# Altium integrated library Atmel Microcontroller 16-Bit ARM.IntLib: 4 symbols
Pins are listed as number, name and electrical type; pins without a type are passive.

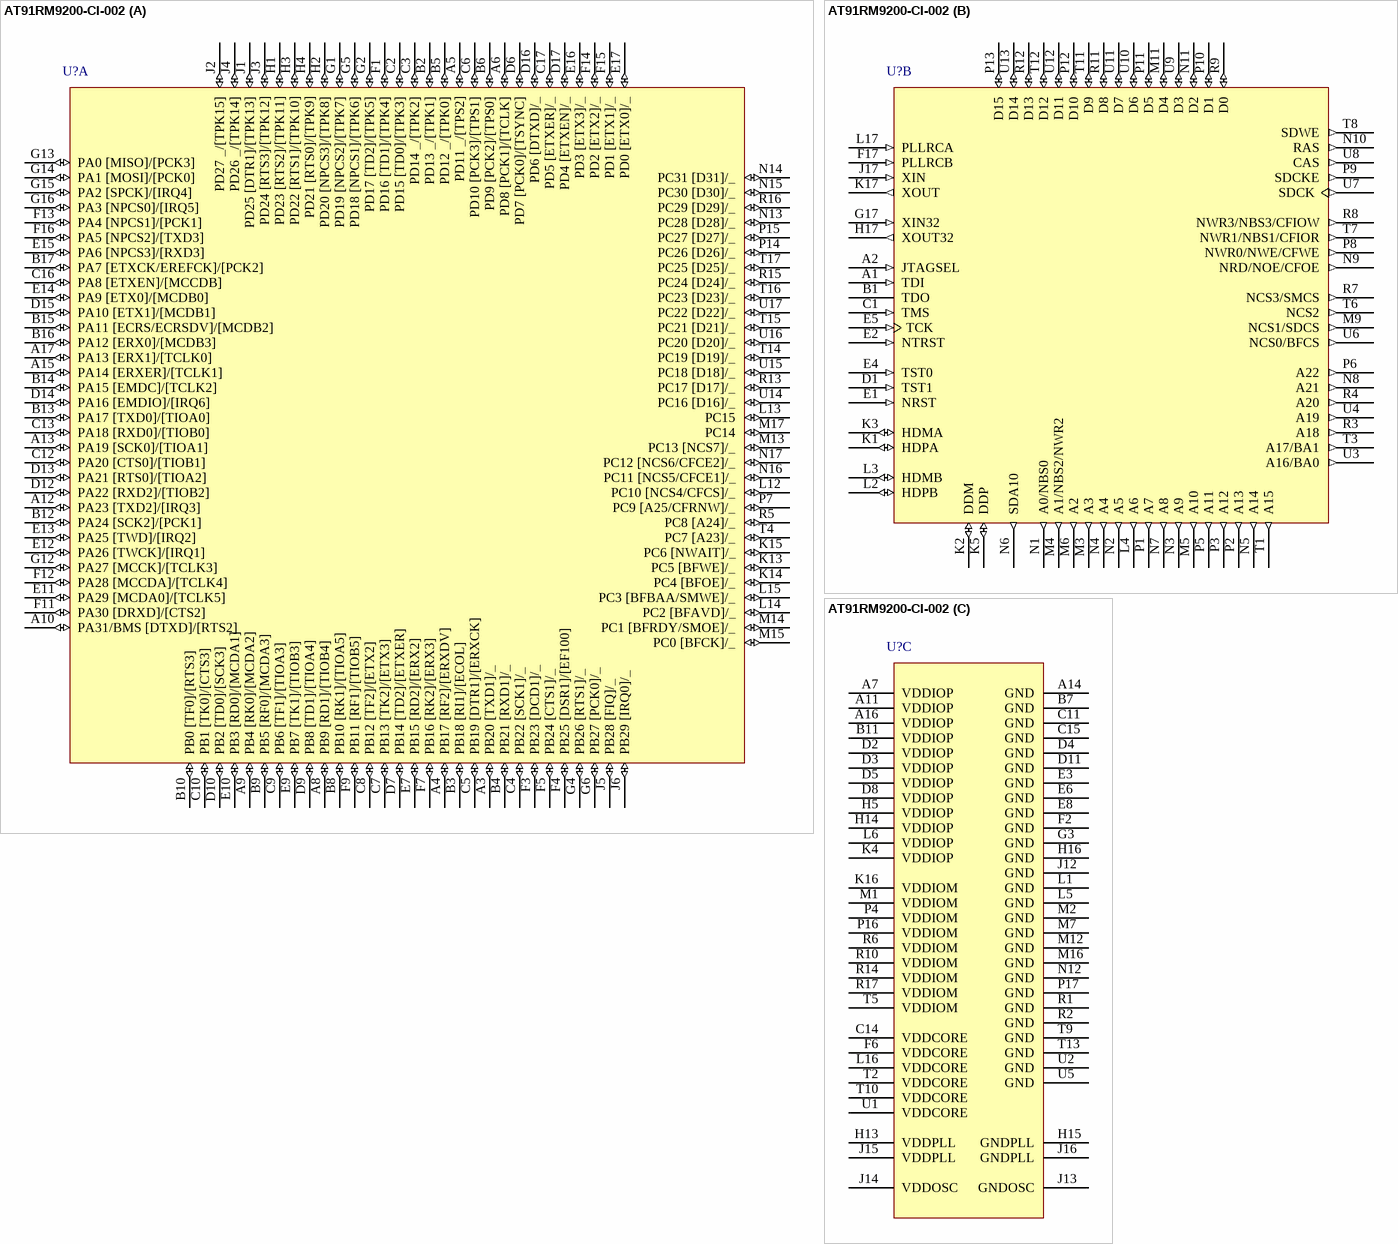
[diagram p0: symbol AT91RM9200-CI-002]

## AT91RM9200-CI-002
designator U?
16-Bit ARM Microcontroller, ARM9TDMI 32-bit RISC CPU, 16KB Instruction and 16KB Data caches, 256-Ball BGA, Industrial; Note: The Pin names in [ ] brackets indicate peripheral multiplexing function.; Published: 6-Oct-2005; LatestRevisionDate: 13-Apr-2006; LatestRevisionNote: IPC-7351 Footprint Added.; DatasheetVersion: 1768D-ATARM-11-Jul-05; PackageVersion: Jul-2005; PackageReference: BGA256; Publisher: Altium Limited; PackageDescription: 256-Ball Ball Grid Array 0.8 mm Pitch; Code_JEDEC: MO-205E (Depopulated); ComponentLink1Description: Manufacturer Link; ComponentLink1URL: http://www.atmel.com; ComponentLink2Description: Datasheet; ComponentLink2URL: http://www.atmel.com/dyn/resources/prod_documents/doc1768.pdf
footprint BGA256 (BGA, 256-Leads, Body 15x15mm, Pitch 0.8mm)
3D model AT91RM9200-BGA256 (256-Ball Ball Grid Array 0.8 mm Pitch)
part A pins: A3 PB20 [TXD1]/_ (io), A4 PB17 [RF2]/[ERXDV] (io), A5 PD11 _/[TPS2] (io), A6 PD8 [PCK1]/[TCLK] (io), A8 PB9 [RD1]/[TIOB4] (io), A9 PB4 [RK0]/[MCDA2] (io), A10 PA31/BMS [DTXD]/[RTS2] (io), A12 PA23 [TXD2]/[IRQ3] (io), A13 PA19 [SCK0]/[TIOA1] (io), A15 PA14 [ERXER]/[TCLK1] (io), A17 PA13 [ERX1]/[TCLK0] (io), B2 PD13 _/[TPK1] (io), B3 PB18 [RI1]/[ECOL] (io), B4 PB21 [RXD1]/_ (io), B5 PD12 _/[TPK0] (io), B6 PD9 [PCK2]/[TPS0] (io), B8 PB10 [RK1]/[TIOA5] (io), B9 PB5 [RF0]/[MCDA3] (io), B10 PB0 [TF0]/[RTS3] (io), B12 PA24 [SCK2]/[PCK1] (io), B13 PA17 [TXD0]/[TIOA0] (io), B14 PA15 [EMDC]/[TCLK2] (io), B15 PA11 [ECRS/ECRSDV]/[MCDB2] (io), B16 PA12 [ERX0]/[MCDB3] (io), B17 PA7 [ETXCK/EREFCK]/[PCK2] (io), C2 PD15 [TD0]/[TPK3] (io), C3 PD14 _/[TPK2] (io), C4 PB22 [SCK1]/_ (io), C5 PB19 [DTR1]/[ERXCK] (io), C6 PD10 [PCK3]/[TPS1] (io), C7 PB13 [TK2]/[ETX3] (io), C8 PB12 [TF2]/[ETX2] (io), C9 PB6 [TF1]/[TIOA3] (io), C10 PB1 [TK0]/[CTS3] (io), C12 PA20 [CTS0]/[TIOB1] (io), C13 PA18 [RXD0]/[TIOB0] (io), C16 PA8 [ETXEN]/[MCCDB] (io), C17 PD5 [ETXER]/_ (io), D6 PD7 [PCK0]/[TSYNC] (io), D7 PB14 [TD2]/[ETXER] (io), D9 PB8 [TD1]/[TIOA4] (io), D10 PB2 [TD0]/[SCK3] (io), D12 PA22 [RXD2]/[TIOB2] (io), D13 PA21 [RTS0]/[TIOA2] (io), D14 PA16 [EMDIO]/[IRQ6] (io), D15 PA10 [ETX1]/[MCDB1] (io), D16 PD6 [DTXD]/_ (io), D17 PD4 [ETXEN]/_ (io), E7 PB15 [RD2]/[ERX2] (io), E9 PB7 [TK1]/[TIOB3] (io), E10 PB3 [RD0]/[MCDA1] (io), E11 PA29 [MCDA0]/[TCLK5] (io), E12 PA26 [TWCK]/[IRQ1] (io), E13 PA25 [TWD]/[IRQ2] (io), E14 PA9 [ETX0]/[MCDB0] (io), E15 PA6 [NPCS3]/[RXD3] (io), E16 PD3 [ETX3]/_ (io), E17 PD0 [ETX0]/_ (io), F1 PD16 [TD1]/[TPK4] (io), F3 PB23 [DCD1]/_ (io), F4 PB25 [DSR1]/[EF100] (io), F5 PB24 [CTS1]/_ (io), F7 PB16 [RK2]/[ERX3] (io), F9 PB11 [RF1]/[TIOB5] (io), F11 PA30 [DRXD]/[CTS2] (io), F12 PA28 [MCCDA]/[TCLK4] (io), F13 PA4 [NPCS1]/[PCK1] (io), F14 PD2 [ETX2]/_ (io), F15 PD1 [ETX1]/_ (io), F16 PA5 [NPCS2]/[TXD3] (io), G1 PD19 [NPCS2]/[TPK7] (io), G2 PD17 [TD2]/[TPK5] (io), G4 PB26 [RTS1]/_ (io), G5 PD18 [NPCS1]/[TPK6] (io), G6 PB27 [PCK0]/_ (io), G12 PA27 [MCCK]/[TCLK3] (io), G13 PA0 [MISO]/[PCK3] (io), G14 PA1 [MOSI]/[PCK0] (io), G15 PA2 [SPCK]/[IRQ4] (io), G16 PA3 [NPCS0]/[IRQ5] (io), H1 PD23 [RTS2]/[TPK11] (io), H2 PD20 [NPCS3]/[TPK8] (io), H3 PD22 [RTS1]/[TPK10] (io), H4 PD21 [RTS0]/[TPK9] (io), J1 PD25 [DTR1]/[TPK13] (io), J2 PD27 _/[TPK15] (io), J3 PD24 [RTS3]/[TPK12] (io), J4 PD26 _/[TPK14] (io), J5 PB28 [FIQ]/_ (io), J6 PB29 [IRQ0]/_ (io), K13 PC5 [BFWE]/_ (io), K14 PC4 [BFOE]/_ (io), K15 PC6 [NWAIT]/_ (io), L12 PC10 [NCS4/CFCS]/_ (io), L13 PC15 (io), L14 PC2 [BFAVD]/_ (io), L15 PC3 [BFBAA/SMWE]/_ (io), M13 PC13 [NCS7]/_ (io), M14 PC1 [BFRDY/SMOE]/_ (io), M15 PC0 [BFCK]/_ (io), M17 PC14 (io), N13 PC28 [D28]/_ (io), N14 PC31 [D31]/_ (io), N15 PC30 [D30]/_ (io), N16 PC11 [NCS5/CFCE1]/_ (io), N17 PC12 [NCS6/CFCE2]/_ (io), P7 PC9 [A25/CFRNW]/_ (io), P14 PC26 [D26]/_ (io), P15 PC27 [D27]/_ (io), R5 PC8 [A24]/_ (io), R13 PC17 [D17]/_ (io), R15 PC24 [D24]/_ (io), R16 PC29 [D29]/_ (io), T4 PC7 [A23]/_ (io), T14 PC19 [D19]/_ (io), T15 PC21 [D21]/_ (io), T16 PC23 [D23]/_ (io), T17 PC25 [D25]/_ (io), U14 PC16 [D16]/_ (io), U15 PC18 [D18]/_ (io), U16 PC20 [D20]/_ (io), U17 PC22 [D22]/_ (io)
part B pins: A1 TDI (in), A2 JTAGSEL (in), B1 TDO (hiz), C1 TMS (in), D1 TST1 (in), E1 NRST (in), E2 NTRST (in), E4 TST0 (in), E5 TCK (in), F17 PLLRCB (in), G17 XIN32 (in), H17 XOUT32 (out), J17 XIN (in), K1 HDPA (io), K2 DDM (io), K3 HDMA (io), K5 DDP (io), K17 XOUT (out), L2 HDPB (io), L3 HDMB (io), L4 A6 (out), L17 PLLRCA (in), M3 A3 (out), M4 A1/NBS2/NWR2 (out), M5 A10 (out), M6 A2 (out), M9 NCS1/SDCS (out), M11 D4 (io), N1 A0/NBS0 (out), N2 A5 (out), N3 A9 (out), N4 A4 (out), N5 A14 (out), N6 SDA10 (out), N7 A8 (out), N8 A21 (out), N9 NRD/NOE/CFOE (out), N10 RAS (out), N11 D2 (io), P1 A7 (out), P2 A13 (out), P3 A12 (out), P5 A11 (out), P6 A22 (out), P8 NWR0/NWE/CFWE (out), P9 SDCKE (out), P10 D1 (io), P11 D5 (io), P12 D10 (io), P13 D15 (io), R3 A18 (out), R4 A20 (out), R7 NCS3/SMCS (out), R8 NWR3/NBS3/CFIOW (out), R9 D0 (io), R11 D8 (io), R12 D13 (io), T1 A15 (out), T3 A17/BA1 (out), T6 NCS2 (out), T7 NWR1/NBS1/CFIOR (out), T8 SDWE (out), T11 D9 (io), T12 D12 (io), U3 A16/BA0 (out), U4 A19 (out), U6 NCS0/BFCS (out), U7 SDCK (out), U8 CAS (out), U9 D3 (io), U10 D6 (io), U11 D7 (io), U12 D11 (io), U13 D14 (io)
part C pins: A7 VDDIOP (power), A11 VDDIOP (power), A14 GND (power), A16 VDDIOP (power), B7 GND (power), B11 VDDIOP (power), C11 GND (power), C14 VDDCORE (power), C15 GND (power), D2 VDDIOP (power), D3 VDDIOP (power), D4 GND (power), D5 VDDIOP (power), D8 VDDIOP (power), D11 GND (power), E3 GND (power), E6 GND (power), E8 GND (power), F2 GND (power), F6 VDDCORE (power), G3 GND (power), H5 VDDIOP (power), H13 VDDPLL (power), H14 VDDIOP (power), H15 GNDPLL (power), H16 GND (power), J12 GND (power), J13 GNDOSC (power), J14 VDDOSC (power), J15 VDDPLL (power), J16 GNDPLL (power), K4 VDDIOP (power), K16 VDDIOM (power), L1 GND (power), L5 GND (power), L6 VDDIOP (power), L16 VDDCORE (power), M1 VDDIOM (power), M2 GND (power), M7 GND (power), M12 GND (power), M16 GND (power), N12 GND (power), P4 VDDIOM (power), P16 VDDIOM (power), P17 GND (power), R1 GND (power), R2 GND (power), R6 VDDIOM (power), R10 VDDIOM (power), R14 VDDIOM (power), R17 VDDIOM (power), T2 VDDCORE (power), T5 VDDIOM (power), T9 GND (power), T10 VDDCORE (power), T13 GND (power), U1 VDDCORE (power), U2 GND (power), U5 GND (power)

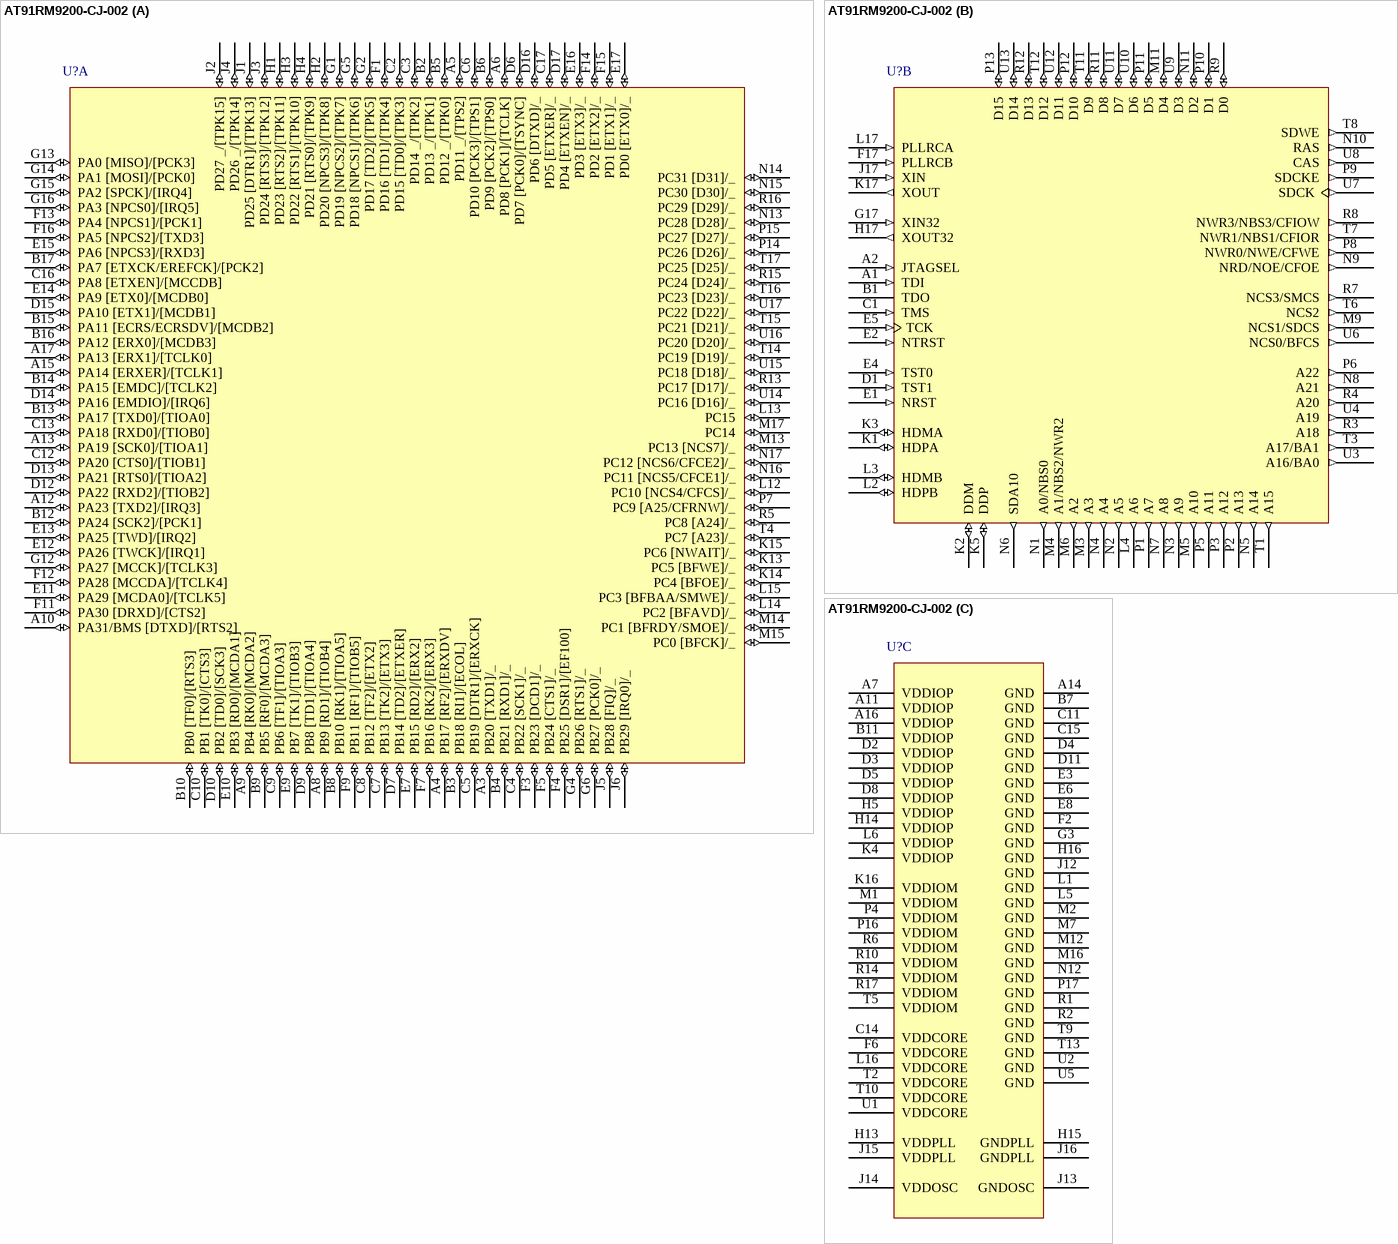
[diagram p1: symbol AT91RM9200-CJ-002]

## AT91RM9200-CJ-002
designator U?
16-Bit ARM Microcontroller, ARM9TDMI 32-bit RISC CPU, 16KB Instruction and 16KB Data caches, 256-Ball BGA, Industrial, Pb-free; Note: The Pin names in [ ] brackets indicate peripheral multiplexing function.; Published: 6-Oct-2005; LatestRevisionDate: 13-Apr-2006; LatestRevisionNote: IPC-7351 Footprint Added.; DatasheetVersion: 1768D-ATARM-11-Jul-05; PackageVersion: Jul-2005; PackageReference: BGA256; Publisher: Altium Limited; PackageDescription: 256-Ball Ball Grid Array 0.8 mm Pitch; Code_JEDEC: MO-205E (Depopulated); ComponentLink1Description: Manufacturer Link; ComponentLink1URL: http://www.atmel.com; ComponentLink2Description: Datasheet; ComponentLink2URL: http://www.atmel.com/dyn/resources/prod_documents/doc1768.pdf
footprint BGA256 (BGA, 256-Leads, Body 15x15mm, Pitch 0.8mm)
3D model AT91RM9200-BGA256 (256-Ball Ball Grid Array 0.8 mm Pitch)
part A pins: A3 PB20 [TXD1]/_ (io), A4 PB17 [RF2]/[ERXDV] (io), A5 PD11 _/[TPS2] (io), A6 PD8 [PCK1]/[TCLK] (io), A8 PB9 [RD1]/[TIOB4] (io), A9 PB4 [RK0]/[MCDA2] (io), A10 PA31/BMS [DTXD]/[RTS2] (io), A12 PA23 [TXD2]/[IRQ3] (io), A13 PA19 [SCK0]/[TIOA1] (io), A15 PA14 [ERXER]/[TCLK1] (io), A17 PA13 [ERX1]/[TCLK0] (io), B2 PD13 _/[TPK1] (io), B3 PB18 [RI1]/[ECOL] (io), B4 PB21 [RXD1]/_ (io), B5 PD12 _/[TPK0] (io), B6 PD9 [PCK2]/[TPS0] (io), B8 PB10 [RK1]/[TIOA5] (io), B9 PB5 [RF0]/[MCDA3] (io), B10 PB0 [TF0]/[RTS3] (io), B12 PA24 [SCK2]/[PCK1] (io), B13 PA17 [TXD0]/[TIOA0] (io), B14 PA15 [EMDC]/[TCLK2] (io), B15 PA11 [ECRS/ECRSDV]/[MCDB2] (io), B16 PA12 [ERX0]/[MCDB3] (io), B17 PA7 [ETXCK/EREFCK]/[PCK2] (io), C2 PD15 [TD0]/[TPK3] (io), C3 PD14 _/[TPK2] (io), C4 PB22 [SCK1]/_ (io), C5 PB19 [DTR1]/[ERXCK] (io), C6 PD10 [PCK3]/[TPS1] (io), C7 PB13 [TK2]/[ETX3] (io), C8 PB12 [TF2]/[ETX2] (io), C9 PB6 [TF1]/[TIOA3] (io), C10 PB1 [TK0]/[CTS3] (io), C12 PA20 [CTS0]/[TIOB1] (io), C13 PA18 [RXD0]/[TIOB0] (io), C16 PA8 [ETXEN]/[MCCDB] (io), C17 PD5 [ETXER]/_ (io), D6 PD7 [PCK0]/[TSYNC] (io), D7 PB14 [TD2]/[ETXER] (io), D9 PB8 [TD1]/[TIOA4] (io), D10 PB2 [TD0]/[SCK3] (io), D12 PA22 [RXD2]/[TIOB2] (io), D13 PA21 [RTS0]/[TIOA2] (io), D14 PA16 [EMDIO]/[IRQ6] (io), D15 PA10 [ETX1]/[MCDB1] (io), D16 PD6 [DTXD]/_ (io), D17 PD4 [ETXEN]/_ (io), E7 PB15 [RD2]/[ERX2] (io), E9 PB7 [TK1]/[TIOB3] (io), E10 PB3 [RD0]/[MCDA1] (io), E11 PA29 [MCDA0]/[TCLK5] (io), E12 PA26 [TWCK]/[IRQ1] (io), E13 PA25 [TWD]/[IRQ2] (io), E14 PA9 [ETX0]/[MCDB0] (io), E15 PA6 [NPCS3]/[RXD3] (io), E16 PD3 [ETX3]/_ (io), E17 PD0 [ETX0]/_ (io), F1 PD16 [TD1]/[TPK4] (io), F3 PB23 [DCD1]/_ (io), F4 PB25 [DSR1]/[EF100] (io), F5 PB24 [CTS1]/_ (io), F7 PB16 [RK2]/[ERX3] (io), F9 PB11 [RF1]/[TIOB5] (io), F11 PA30 [DRXD]/[CTS2] (io), F12 PA28 [MCCDA]/[TCLK4] (io), F13 PA4 [NPCS1]/[PCK1] (io), F14 PD2 [ETX2]/_ (io), F15 PD1 [ETX1]/_ (io), F16 PA5 [NPCS2]/[TXD3] (io), G1 PD19 [NPCS2]/[TPK7] (io), G2 PD17 [TD2]/[TPK5] (io), G4 PB26 [RTS1]/_ (io), G5 PD18 [NPCS1]/[TPK6] (io), G6 PB27 [PCK0]/_ (io), G12 PA27 [MCCK]/[TCLK3] (io), G13 PA0 [MISO]/[PCK3] (io), G14 PA1 [MOSI]/[PCK0] (io), G15 PA2 [SPCK]/[IRQ4] (io), G16 PA3 [NPCS0]/[IRQ5] (io), H1 PD23 [RTS2]/[TPK11] (io), H2 PD20 [NPCS3]/[TPK8] (io), H3 PD22 [RTS1]/[TPK10] (io), H4 PD21 [RTS0]/[TPK9] (io), J1 PD25 [DTR1]/[TPK13] (io), J2 PD27 _/[TPK15] (io), J3 PD24 [RTS3]/[TPK12] (io), J4 PD26 _/[TPK14] (io), J5 PB28 [FIQ]/_ (io), J6 PB29 [IRQ0]/_ (io), K13 PC5 [BFWE]/_ (io), K14 PC4 [BFOE]/_ (io), K15 PC6 [NWAIT]/_ (io), L12 PC10 [NCS4/CFCS]/_ (io), L13 PC15 (io), L14 PC2 [BFAVD]/_ (io), L15 PC3 [BFBAA/SMWE]/_ (io), M13 PC13 [NCS7]/_ (io), M14 PC1 [BFRDY/SMOE]/_ (io), M15 PC0 [BFCK]/_ (io), M17 PC14 (io), N13 PC28 [D28]/_ (io), N14 PC31 [D31]/_ (io), N15 PC30 [D30]/_ (io), N16 PC11 [NCS5/CFCE1]/_ (io), N17 PC12 [NCS6/CFCE2]/_ (io), P7 PC9 [A25/CFRNW]/_ (io), P14 PC26 [D26]/_ (io), P15 PC27 [D27]/_ (io), R5 PC8 [A24]/_ (io), R13 PC17 [D17]/_ (io), R15 PC24 [D24]/_ (io), R16 PC29 [D29]/_ (io), T4 PC7 [A23]/_ (io), T14 PC19 [D19]/_ (io), T15 PC21 [D21]/_ (io), T16 PC23 [D23]/_ (io), T17 PC25 [D25]/_ (io), U14 PC16 [D16]/_ (io), U15 PC18 [D18]/_ (io), U16 PC20 [D20]/_ (io), U17 PC22 [D22]/_ (io)
part B pins: A1 TDI (in), A2 JTAGSEL (in), B1 TDO (hiz), C1 TMS (in), D1 TST1 (in), E1 NRST (in), E2 NTRST (in), E4 TST0 (in), E5 TCK (in), F17 PLLRCB (in), G17 XIN32 (in), H17 XOUT32 (out), J17 XIN (in), K1 HDPA (io), K2 DDM (io), K3 HDMA (io), K5 DDP (io), K17 XOUT (out), L2 HDPB (io), L3 HDMB (io), L4 A6 (out), L17 PLLRCA (in), M3 A3 (out), M4 A1/NBS2/NWR2 (out), M5 A10 (out), M6 A2 (out), M9 NCS1/SDCS (out), M11 D4 (io), N1 A0/NBS0 (out), N2 A5 (out), N3 A9 (out), N4 A4 (out), N5 A14 (out), N6 SDA10 (out), N7 A8 (out), N8 A21 (out), N9 NRD/NOE/CFOE (out), N10 RAS (out), N11 D2 (io), P1 A7 (out), P2 A13 (out), P3 A12 (out), P5 A11 (out), P6 A22 (out), P8 NWR0/NWE/CFWE (out), P9 SDCKE (out), P10 D1 (io), P11 D5 (io), P12 D10 (io), P13 D15 (io), R3 A18 (out), R4 A20 (out), R7 NCS3/SMCS (out), R8 NWR3/NBS3/CFIOW (out), R9 D0 (io), R11 D8 (io), R12 D13 (io), T1 A15 (out), T3 A17/BA1 (out), T6 NCS2 (out), T7 NWR1/NBS1/CFIOR (out), T8 SDWE (out), T11 D9 (io), T12 D12 (io), U3 A16/BA0 (out), U4 A19 (out), U6 NCS0/BFCS (out), U7 SDCK (out), U8 CAS (out), U9 D3 (io), U10 D6 (io), U11 D7 (io), U12 D11 (io), U13 D14 (io)
part C pins: A7 VDDIOP (power), A11 VDDIOP (power), A14 GND (power), A16 VDDIOP (power), B7 GND (power), B11 VDDIOP (power), C11 GND (power), C14 VDDCORE (power), C15 GND (power), D2 VDDIOP (power), D3 VDDIOP (power), D4 GND (power), D5 VDDIOP (power), D8 VDDIOP (power), D11 GND (power), E3 GND (power), E6 GND (power), E8 GND (power), F2 GND (power), F6 VDDCORE (power), G3 GND (power), H5 VDDIOP (power), H13 VDDPLL (power), H14 VDDIOP (power), H15 GNDPLL (power), H16 GND (power), J12 GND (power), J13 GNDOSC (power), J14 VDDOSC (power), J15 VDDPLL (power), J16 GNDPLL (power), K4 VDDIOP (power), K16 VDDIOM (power), L1 GND (power), L5 GND (power), L6 VDDIOP (power), L16 VDDCORE (power), M1 VDDIOM (power), M2 GND (power), M7 GND (power), M12 GND (power), M16 GND (power), N12 GND (power), P4 VDDIOM (power), P16 VDDIOM (power), P17 GND (power), R1 GND (power), R2 GND (power), R6 VDDIOM (power), R10 VDDIOM (power), R14 VDDIOM (power), R17 VDDIOM (power), T2 VDDCORE (power), T5 VDDIOM (power), T9 GND (power), T10 VDDCORE (power), T13 GND (power), U1 VDDCORE (power), U2 GND (power), U5 GND (power)

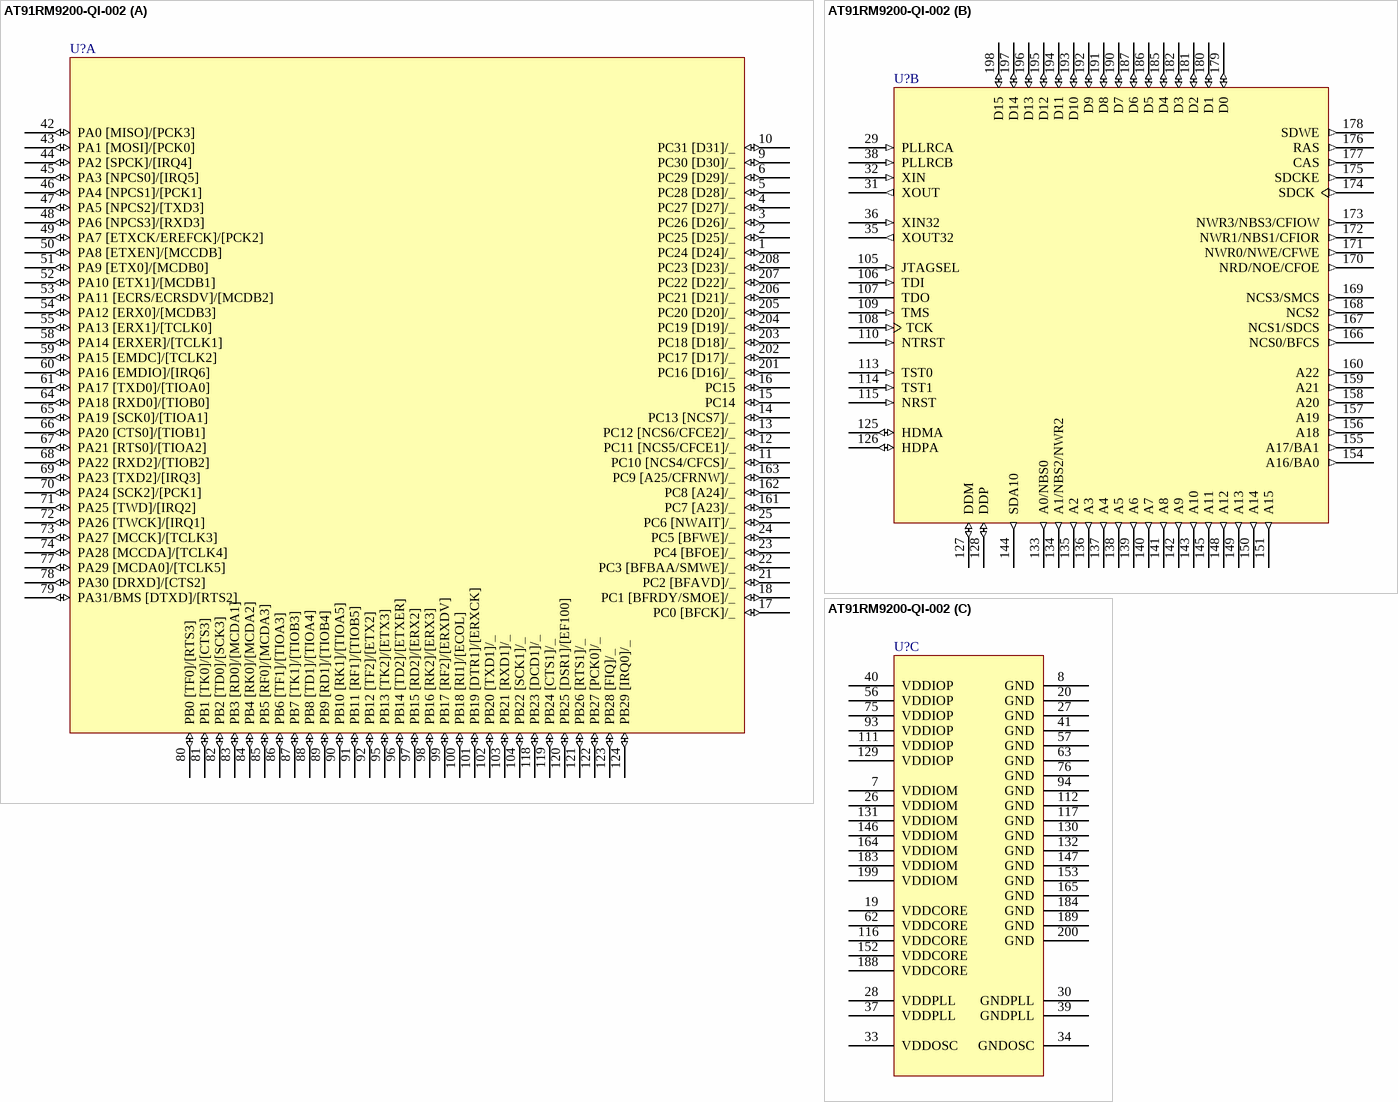
[diagram p2: symbol AT91RM9200-QI-002]

## AT91RM9200-QI-002
designator U?
16-Bit ARM Microcontroller, ARM9TDMI 32-bit RISC CPU, 16KB Instruction and 16KB Data caches, 208-Pin PQFP, Industrial; Note: The Pin names in [ ] brackets indicate peripheral multiplexing function.; Published: 6-Oct-2005; LatestRevisionDate: 13-Apr-2006; LatestRevisionNote: IPC-7351 Footprint Added.; DatasheetVersion: 1768D-ATARM-11-Jul-05; PackageVersion: Jul-2005; PackageReference: QFP208; Publisher: Altium Limited; PackageDescription: 208-Pin Plastic Shrink Quad Flat Pack 0.5 mm Pitch; Code_JEDEC: MS-022; ComponentLink1Description: Manufacturer Link; ComponentLink1URL: http://www.atmel.com; ComponentLink2Description: Datasheet; ComponentLink2URL: http://www.atmel.com/dyn/resources/prod_documents/doc1768.pdf
footprint QFP208_N (Shrink QFP, 208-Leads, Body 28x28mm, Pitch 0.5mm, IPC Medium Density)
footprint QFP208_L (Shrink QFP, 208-Leads, Body 28x28mm, Pitch 0.5mm, IPC High Density)
footprint QFP208_M (Shrink QFP, 208-Leads, Body 28x28mm, Pitch 0.5mm, IPC Low Density)
3D model AT91RM9200-QFP208 (208-Pin Plastic Shrink Quad Flat Pack 0.5 mm Pitch)
part A pins: 1 PC24 [D24]/_ (io), 2 PC25 [D25]/_ (io), 3 PC26 [D26]/_ (io), 4 PC27 [D27]/_ (io), 5 PC28 [D28]/_ (io), 6 PC29 [D29]/_ (io), 9 PC30 [D30]/_ (io), 10 PC31 [D31]/_ (io), 11 PC10 [NCS4/CFCS]/_ (io), 12 PC11 [NCS5/CFCE1]/_ (io), 13 PC12 [NCS6/CFCE2]/_ (io), 14 PC13 [NCS7]/_ (io), 15 PC14 (io), 16 PC15 (io), 17 PC0 [BFCK]/_ (io), 18 PC1 [BFRDY/SMOE]/_ (io), 21 PC2 [BFAVD]/_ (io), 22 PC3 [BFBAA/SMWE]/_ (io), 23 PC4 [BFOE]/_ (io), 24 PC5 [BFWE]/_ (io), 25 PC6 [NWAIT]/_ (io), 42 PA0 [MISO]/[PCK3] (io), 43 PA1 [MOSI]/[PCK0] (io), 44 PA2 [SPCK]/[IRQ4] (io), 45 PA3 [NPCS0]/[IRQ5] (io), 46 PA4 [NPCS1]/[PCK1] (io), 47 PA5 [NPCS2]/[TXD3] (io), 48 PA6 [NPCS3]/[RXD3] (io), 49 PA7 [ETXCK/EREFCK]/[PCK2] (io), 50 PA8 [ETXEN]/[MCCDB] (io), 51 PA9 [ETX0]/[MCDB0] (io), 52 PA10 [ETX1]/[MCDB1] (io), 53 PA11 [ECRS/ECRSDV]/[MCDB2] (io), 54 PA12 [ERX0]/[MCDB3] (io), 55 PA13 [ERX1]/[TCLK0] (io), 58 PA14 [ERXER]/[TCLK1] (io), 59 PA15 [EMDC]/[TCLK2] (io), 60 PA16 [EMDIO]/[IRQ6] (io), 61 PA17 [TXD0]/[TIOA0] (io), 64 PA18 [RXD0]/[TIOB0] (io), 65 PA19 [SCK0]/[TIOA1] (io), 66 PA20 [CTS0]/[TIOB1] (io), 67 PA21 [RTS0]/[TIOA2] (io), 68 PA22 [RXD2]/[TIOB2] (io), 69 PA23 [TXD2]/[IRQ3] (io), 70 PA24 [SCK2]/[PCK1] (io), 71 PA25 [TWD]/[IRQ2] (io), 72 PA26 [TWCK]/[IRQ1] (io), 73 PA27 [MCCK]/[TCLK3] (io), 74 PA28 [MCCDA]/[TCLK4] (io), 77 PA29 [MCDA0]/[TCLK5] (io), 78 PA30 [DRXD]/[CTS2] (io), 79 PA31/BMS [DTXD]/[RTS2] (io), 80 PB0 [TF0]/[RTS3] (io), 81 PB1 [TK0]/[CTS3] (io), 82 PB2 [TD0]/[SCK3] (io), 83 PB3 [RD0]/[MCDA1] (io), 84 PB4 [RK0]/[MCDA2] (io), 85 PB5 [RF0]/[MCDA3] (io), 86 PB6 [TF1]/[TIOA3] (io), 87 PB7 [TK1]/[TIOB3] (io), 88 PB8 [TD1]/[TIOA4] (io), 89 PB9 [RD1]/[TIOB4] (io), 90 PB10 [RK1]/[TIOA5] (io), 91 PB11 [RF1]/[TIOB5] (io), 92 PB12 [TF2]/[ETX2] (io), 95 PB13 [TK2]/[ETX3] (io), 96 PB14 [TD2]/[ETXER] (io), 97 PB15 [RD2]/[ERX2] (io), 98 PB16 [RK2]/[ERX3] (io), 99 PB17 [RF2]/[ERXDV] (io), 100 PB18 [RI1]/[ECOL] (io), 101 PB19 [DTR1]/[ERXCK] (io), 102 PB20 [TXD1]/_ (io), 103 PB21 [RXD1]/_ (io), 104 PB22 [SCK1]/_ (io), 118 PB23 [DCD1]/_ (io), 119 PB24 [CTS1]/_ (io), 120 PB25 [DSR1]/[EF100] (io), 121 PB26 [RTS1]/_ (io), 122 PB27 [PCK0]/_ (io), 123 PB28 [FIQ]/_ (io), 124 PB29 [IRQ0]/_ (io), 161 PC7 [A23]/_ (io), 162 PC8 [A24]/_ (io), 163 PC9 [A25/CFRNW]/_ (io), 201 PC16 [D16]/_ (io), 202 PC17 [D17]/_ (io), 203 PC18 [D18]/_ (io), 204 PC19 [D19]/_ (io), 205 PC20 [D20]/_ (io), 206 PC21 [D21]/_ (io), 207 PC22 [D22]/_ (io), 208 PC23 [D23]/_ (io)
part B pins: 29 PLLRCA (in), 31 XOUT (out), 32 XIN (in), 35 XOUT32 (out), 36 XIN32 (in), 38 PLLRCB (in), 105 JTAGSEL (in), 106 TDI (in), 107 TDO (hiz), 108 TCK (in), 109 TMS (in), 110 NTRST (in), 113 TST0 (in), 114 TST1 (in), 115 NRST (in), 125 HDMA (io), 126 HDPA (io), 127 DDM (io), 128 DDP (io), 133 A0/NBS0 (out), 134 A1/NBS2/NWR2 (out), 135 A2 (out), 136 A3 (out), 137 A4 (out), 138 A5 (out), 139 A6 (out), 140 A7 (out), 141 A8 (out), 142 A9 (out), 143 A10 (out), 144 SDA10 (out), 145 A11 (out), 148 A12 (out), 149 A13 (out), 150 A14 (out), 151 A15 (out), 154 A16/BA0 (out), 155 A17/BA1 (out), 156 A18 (out), 157 A19 (out), 158 A20 (out), 159 A21 (out), 160 A22 (out), 166 NCS0/BFCS (out), 167 NCS1/SDCS (out), 168 NCS2 (out), 169 NCS3/SMCS (out), 170 NRD/NOE/CFOE (out), 171 NWR0/NWE/CFWE (out), 172 NWR1/NBS1/CFIOR (out), 173 NWR3/NBS3/CFIOW (out), 174 SDCK (out), 175 SDCKE (out), 176 RAS (out), 177 CAS (out), 178 SDWE (out), 179 D0 (io), 180 D1 (io), 181 D2 (io), 182 D3 (io), 185 D4 (io), 186 D5 (io), 187 D6 (io), 190 D7 (io), 191 D8 (io), 192 D9 (io), 193 D10 (io), 194 D11 (io), 195 D12 (io), 196 D13 (io), 197 D14 (io), 198 D15 (io)
part C pins: 7 VDDIOM (power), 8 GND (power), 19 VDDCORE (power), 20 GND (power), 26 VDDIOM (power), 27 GND (power), 28 VDDPLL (power), 30 GNDPLL (power), 33 VDDOSC (power), 34 GNDOSC (power), 37 VDDPLL (power), 39 GNDPLL (power), 40 VDDIOP (power), 41 GND (power), 56 VDDIOP (power), 57 GND (power), 62 VDDCORE (power), 63 GND (power), 75 VDDIOP (power), 76 GND (power), 93 VDDIOP (power), 94 GND (power), 111 VDDIOP (power), 112 GND (power), 116 VDDCORE (power), 117 GND (power), 129 VDDIOP (power), 130 GND (power), 131 VDDIOM (power), 132 GND (power), 146 VDDIOM (power), 147 GND (power), 152 VDDCORE (power), 153 GND (power), 164 VDDIOM (power), 165 GND (power), 183 VDDIOM (power), 184 GND (power), 188 VDDCORE (power), 189 GND (power), 199 VDDIOM (power), 200 GND (power)

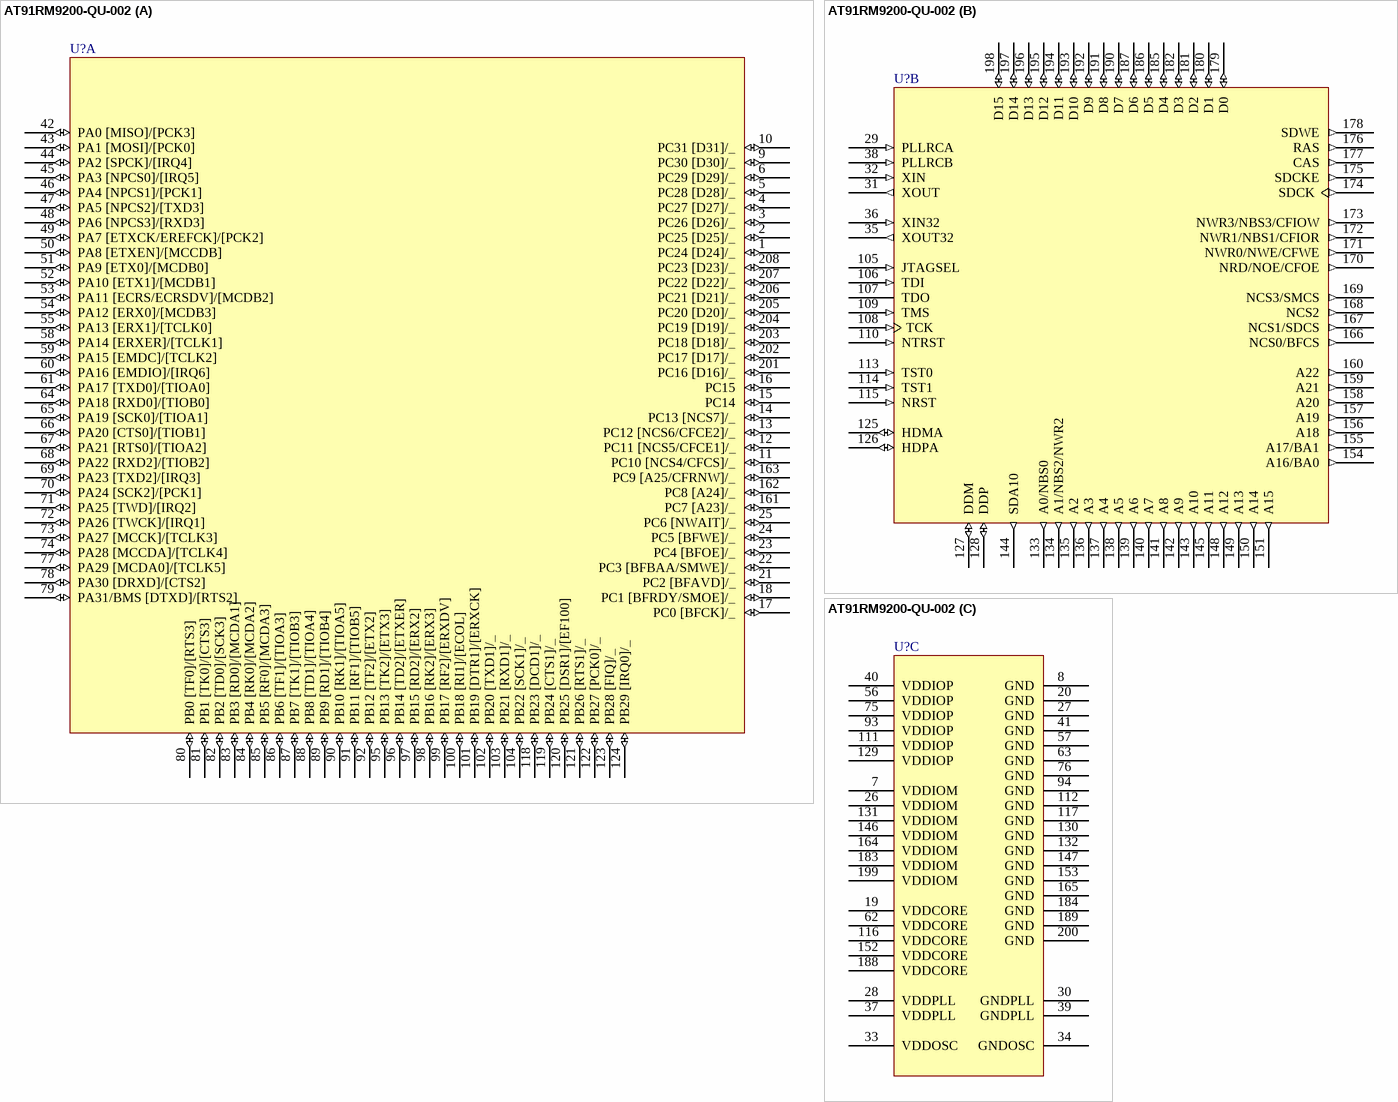
[diagram p3: symbol AT91RM9200-QU-002]

## AT91RM9200-QU-002
designator U?
16-Bit ARM Microcontroller, ARM9TDMI 32-bit RISC CPU, 16KB Instruction and 16KB Data caches, 208-Pin PQFP, Industrial, Pb-free; Note: The Pin names in [ ] brackets indicate peripheral multiplexing function.; Published: 6-Oct-2005; LatestRevisionDate: 13-Apr-2006; LatestRevisionNote: IPC-7351 Footprint Added.; DatasheetVersion: 1768D-ATARM-11-Jul-05; PackageVersion: Jul-2005; PackageReference: QFP208; Publisher: Altium Limited; PackageDescription: 208-Pin Plastic Shrink Quad Flat Pack 0.5 mm Pitch; Code_JEDEC: MS-022; ComponentLink1Description: Manufacturer Link; ComponentLink1URL: http://www.atmel.com; ComponentLink2Description: Datasheet; ComponentLink2URL: http://www.atmel.com/dyn/resources/prod_documents/doc1768.pdf
footprint QFP208_N (Shrink QFP, 208-Leads, Body 28x28mm, Pitch 0.5mm, IPC Medium Density)
footprint QFP208_L (Shrink QFP, 208-Leads, Body 28x28mm, Pitch 0.5mm, IPC High Density)
footprint QFP208_M (Shrink QFP, 208-Leads, Body 28x28mm, Pitch 0.5mm, IPC Low Density)
3D model AT91RM9200-QFP208 (208-Pin Plastic Shrink Quad Flat Pack 0.5 mm Pitch)
part A pins: 1 PC24 [D24]/_ (io), 2 PC25 [D25]/_ (io), 3 PC26 [D26]/_ (io), 4 PC27 [D27]/_ (io), 5 PC28 [D28]/_ (io), 6 PC29 [D29]/_ (io), 9 PC30 [D30]/_ (io), 10 PC31 [D31]/_ (io), 11 PC10 [NCS4/CFCS]/_ (io), 12 PC11 [NCS5/CFCE1]/_ (io), 13 PC12 [NCS6/CFCE2]/_ (io), 14 PC13 [NCS7]/_ (io), 15 PC14 (io), 16 PC15 (io), 17 PC0 [BFCK]/_ (io), 18 PC1 [BFRDY/SMOE]/_ (io), 21 PC2 [BFAVD]/_ (io), 22 PC3 [BFBAA/SMWE]/_ (io), 23 PC4 [BFOE]/_ (io), 24 PC5 [BFWE]/_ (io), 25 PC6 [NWAIT]/_ (io), 42 PA0 [MISO]/[PCK3] (io), 43 PA1 [MOSI]/[PCK0] (io), 44 PA2 [SPCK]/[IRQ4] (io), 45 PA3 [NPCS0]/[IRQ5] (io), 46 PA4 [NPCS1]/[PCK1] (io), 47 PA5 [NPCS2]/[TXD3] (io), 48 PA6 [NPCS3]/[RXD3] (io), 49 PA7 [ETXCK/EREFCK]/[PCK2] (io), 50 PA8 [ETXEN]/[MCCDB] (io), 51 PA9 [ETX0]/[MCDB0] (io), 52 PA10 [ETX1]/[MCDB1] (io), 53 PA11 [ECRS/ECRSDV]/[MCDB2] (io), 54 PA12 [ERX0]/[MCDB3] (io), 55 PA13 [ERX1]/[TCLK0] (io), 58 PA14 [ERXER]/[TCLK1] (io), 59 PA15 [EMDC]/[TCLK2] (io), 60 PA16 [EMDIO]/[IRQ6] (io), 61 PA17 [TXD0]/[TIOA0] (io), 64 PA18 [RXD0]/[TIOB0] (io), 65 PA19 [SCK0]/[TIOA1] (io), 66 PA20 [CTS0]/[TIOB1] (io), 67 PA21 [RTS0]/[TIOA2] (io), 68 PA22 [RXD2]/[TIOB2] (io), 69 PA23 [TXD2]/[IRQ3] (io), 70 PA24 [SCK2]/[PCK1] (io), 71 PA25 [TWD]/[IRQ2] (io), 72 PA26 [TWCK]/[IRQ1] (io), 73 PA27 [MCCK]/[TCLK3] (io), 74 PA28 [MCCDA]/[TCLK4] (io), 77 PA29 [MCDA0]/[TCLK5] (io), 78 PA30 [DRXD]/[CTS2] (io), 79 PA31/BMS [DTXD]/[RTS2] (io), 80 PB0 [TF0]/[RTS3] (io), 81 PB1 [TK0]/[CTS3] (io), 82 PB2 [TD0]/[SCK3] (io), 83 PB3 [RD0]/[MCDA1] (io), 84 PB4 [RK0]/[MCDA2] (io), 85 PB5 [RF0]/[MCDA3] (io), 86 PB6 [TF1]/[TIOA3] (io), 87 PB7 [TK1]/[TIOB3] (io), 88 PB8 [TD1]/[TIOA4] (io), 89 PB9 [RD1]/[TIOB4] (io), 90 PB10 [RK1]/[TIOA5] (io), 91 PB11 [RF1]/[TIOB5] (io), 92 PB12 [TF2]/[ETX2] (io), 95 PB13 [TK2]/[ETX3] (io), 96 PB14 [TD2]/[ETXER] (io), 97 PB15 [RD2]/[ERX2] (io), 98 PB16 [RK2]/[ERX3] (io), 99 PB17 [RF2]/[ERXDV] (io), 100 PB18 [RI1]/[ECOL] (io), 101 PB19 [DTR1]/[ERXCK] (io), 102 PB20 [TXD1]/_ (io), 103 PB21 [RXD1]/_ (io), 104 PB22 [SCK1]/_ (io), 118 PB23 [DCD1]/_ (io), 119 PB24 [CTS1]/_ (io), 120 PB25 [DSR1]/[EF100] (io), 121 PB26 [RTS1]/_ (io), 122 PB27 [PCK0]/_ (io), 123 PB28 [FIQ]/_ (io), 124 PB29 [IRQ0]/_ (io), 161 PC7 [A23]/_ (io), 162 PC8 [A24]/_ (io), 163 PC9 [A25/CFRNW]/_ (io), 201 PC16 [D16]/_ (io), 202 PC17 [D17]/_ (io), 203 PC18 [D18]/_ (io), 204 PC19 [D19]/_ (io), 205 PC20 [D20]/_ (io), 206 PC21 [D21]/_ (io), 207 PC22 [D22]/_ (io), 208 PC23 [D23]/_ (io)
part B pins: 29 PLLRCA (in), 31 XOUT (out), 32 XIN (in), 35 XOUT32 (out), 36 XIN32 (in), 38 PLLRCB (in), 105 JTAGSEL (in), 106 TDI (in), 107 TDO (hiz), 108 TCK (in), 109 TMS (in), 110 NTRST (in), 113 TST0 (in), 114 TST1 (in), 115 NRST (in), 125 HDMA (io), 126 HDPA (io), 127 DDM (io), 128 DDP (io), 133 A0/NBS0 (out), 134 A1/NBS2/NWR2 (out), 135 A2 (out), 136 A3 (out), 137 A4 (out), 138 A5 (out), 139 A6 (out), 140 A7 (out), 141 A8 (out), 142 A9 (out), 143 A10 (out), 144 SDA10 (out), 145 A11 (out), 148 A12 (out), 149 A13 (out), 150 A14 (out), 151 A15 (out), 154 A16/BA0 (out), 155 A17/BA1 (out), 156 A18 (out), 157 A19 (out), 158 A20 (out), 159 A21 (out), 160 A22 (out), 166 NCS0/BFCS (out), 167 NCS1/SDCS (out), 168 NCS2 (out), 169 NCS3/SMCS (out), 170 NRD/NOE/CFOE (out), 171 NWR0/NWE/CFWE (out), 172 NWR1/NBS1/CFIOR (out), 173 NWR3/NBS3/CFIOW (out), 174 SDCK (out), 175 SDCKE (out), 176 RAS (out), 177 CAS (out), 178 SDWE (out), 179 D0 (io), 180 D1 (io), 181 D2 (io), 182 D3 (io), 185 D4 (io), 186 D5 (io), 187 D6 (io), 190 D7 (io), 191 D8 (io), 192 D9 (io), 193 D10 (io), 194 D11 (io), 195 D12 (io), 196 D13 (io), 197 D14 (io), 198 D15 (io)
part C pins: 7 VDDIOM (power), 8 GND (power), 19 VDDCORE (power), 20 GND (power), 26 VDDIOM (power), 27 GND (power), 28 VDDPLL (power), 30 GNDPLL (power), 33 VDDOSC (power), 34 GNDOSC (power), 37 VDDPLL (power), 39 GNDPLL (power), 40 VDDIOP (power), 41 GND (power), 56 VDDIOP (power), 57 GND (power), 62 VDDCORE (power), 63 GND (power), 75 VDDIOP (power), 76 GND (power), 93 VDDIOP (power), 94 GND (power), 111 VDDIOP (power), 112 GND (power), 116 VDDCORE (power), 117 GND (power), 129 VDDIOP (power), 130 GND (power), 131 VDDIOM (power), 132 GND (power), 146 VDDIOM (power), 147 GND (power), 152 VDDCORE (power), 153 GND (power), 164 VDDIOM (power), 165 GND (power), 183 VDDIOM (power), 184 GND (power), 188 VDDCORE (power), 189 GND (power), 199 VDDIOM (power), 200 GND (power)